# Altium footprint library 6-SMD Module.PcbLib: 1 footprints
Each footprint in its own frame and in the unit in brackets; x right, y up, seen from the top. Pads: shape width x height; smd on the part's side, far side on the other; paste and mask are expansions set on the pad; w line width, h text height; cw(c..) or ccw(c..) is an arc to the next point about the centre after c.
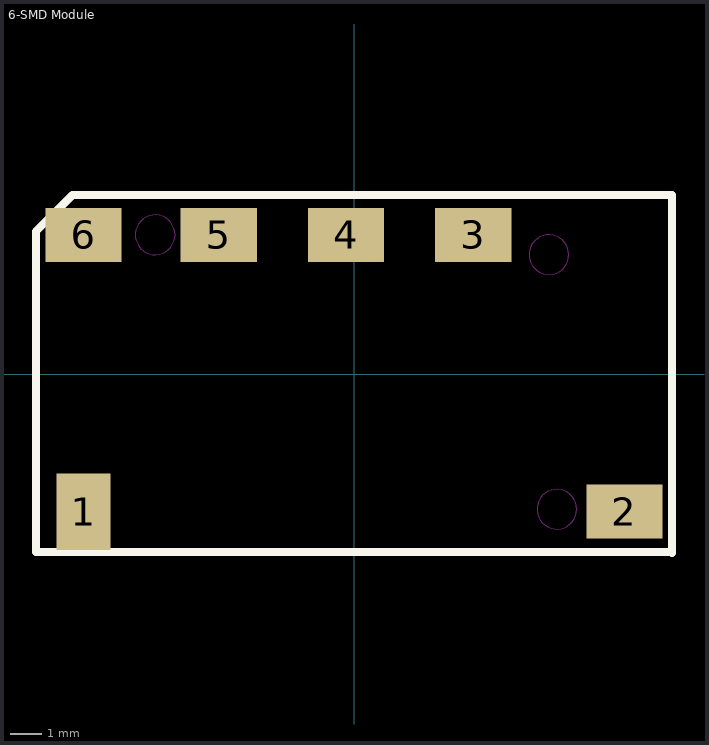
[diagram p0: the footprint, top view; thin cyan lines are the x and y axes]

## 6-SMD Module [mil]
pads (6):
  rect 68x96 smd: 1(-340,-173)
  rect 96x68 smd: 2(340,-173) 3(150,175) 4(-10,175) 5(-170,175) 6(-340,175)
Top Overlay:
  lines w10: -400,-224 -400,179 -354,225 -333,225 400,225 400,-225 399,-224 -400,-224
Keep-Out Layer:
  circle w1: c-250,175 r25
  circle w1: c245,150 r25
  circle w1: c255,-170 r25